# EAGLE library part CON-SUBD_M25HPS (library BURPS-v1.0)
SUB-D
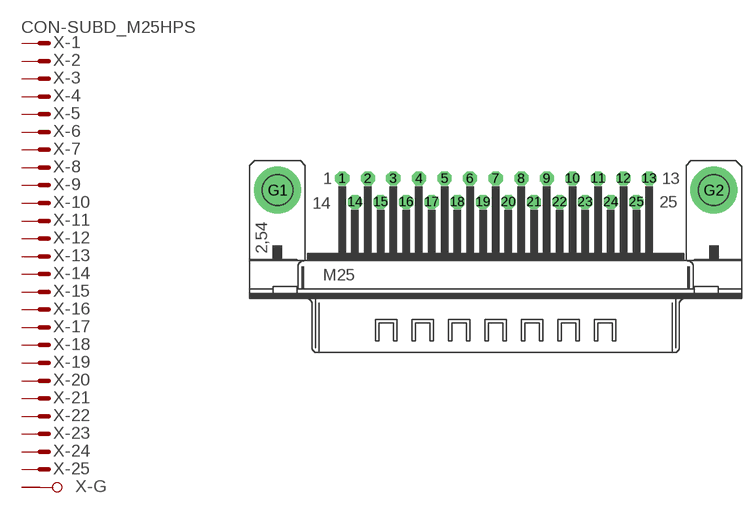
[diagram p1: symbol with the pads of CON-SUBD_M25HP; footprint CON-SUBD_M25HP]

Designator prefix X; gates -1=CON-SUBD_MV -2=CON-SUBD_M -3=CON-SUBD_M -4=CON-SUBD_M -5=CON-SUBD_M -6=CON-SUBD_M -7=CON-SUBD_M -8=CON-SUBD_M -9=CON-SUBD_M -10=CON-SUBD_M -11=CON-SUBD_M -12=CON-SUBD_M -13=CON-SUBD_M -14=CON-SUBD_M -15=CON-SUBD_M -16=CON-SUBD_M -17=CON-SUBD_M -18=CON-SUBD_M -19=CON-SUBD_M -20=CON-SUBD_M -21=CON-SUBD_M -22=CON-SUBD_M -23=CON-SUBD_M -24=CON-SUBD_M -25=CON-SUBD_M -G=CON-SUBD_GND

## CON-SUBD_M25HPS (OC_FARNELL: unknown; OC_NEWARK: unknown)  [CON-SUBD_M25HP]
1  -1:M  pas
2  -2:M  pas
3  -3:M  pas
4  -4:M  pas
5  -5:M  pas
6  -6:M  pas
7  -7:M  pas
8  -8:M  pas
9  -9:M  pas
10  -10:M  pas
11  -11:M  pas
12  -12:M  pas
13  -13:M  pas
14  -14:M  pas
15  -15:M  pas
16  -16:M  pas
17  -17:M  pas
18  -18:M  pas
19  -19:M  pas
20  -20:M  pas
21  -21:M  pas
22  -22:M  pas
23  -23:M  pas
24  -24:M  pas
25  -25:M  pas
G1  -G:G1  pas
G2  -G:G2  pas

## Footprint CON-SUBD_M25HP (pad centres in mm)
SUB-D
drill 1.016 octagon: 1 -16.561,1.27; 2 -13.792,1.27; 3 -11.049,1.27; 4 -8.28,1.27; 5 -5.512,1.27; 6 -2.769,1.27; 7 0,1.27; 8 2.769,1.27; 9 5.512,1.27; 10 8.28,1.27; 11 11.049,1.27; 12 13.792,1.27; 13 16.561,1.27; 14 -15.189,-1.27; 15 -12.421,-1.27; 16 -9.652,-1.27; 17 -6.909,-1.27; 18 -4.14,-1.27; 19 -1.372,-1.27; 20 1.372,-1.27; 21 4.14,-1.27; 22 6.909,-1.27; 23 9.652,-1.27; 24 12.421,-1.27; 25 15.189,-1.27
drill 3.302 pad 5.08 round: G1 -23.52,0; G2 23.52,0